# Altium footprint library Cuk_3ph_control.PcbLib: 28 footprints (part 2 of 2)
Each footprint in its own frame and in the unit in brackets; x right, y up, seen from the top. Pads: shape width x height; smd on the part's side, far side on the other; paste and mask are expansions set on the pad; w line width, h text height; cw(c..) or ccw(c..) is an arc to the next point about the centre after c.
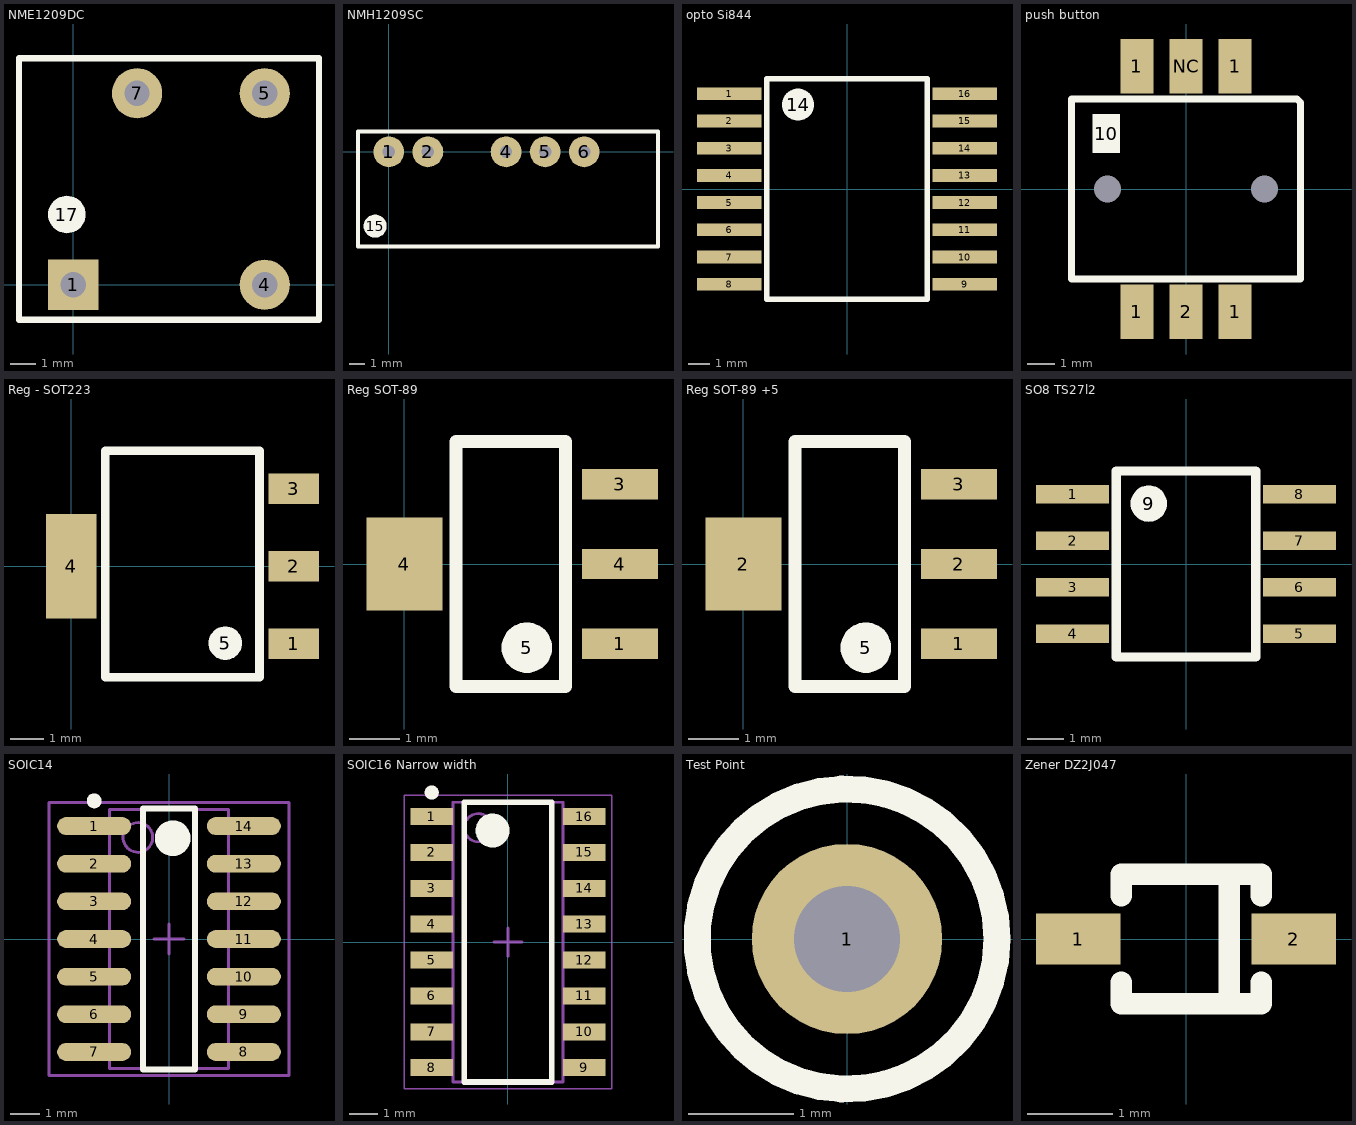
[diagram p1: the footprints below, top view; thin cyan lines are the x and y axes]

## NME1209DC [mm]
height 10
pads (5):
  rect 2x2 hole 1: 1(0,0)
  round 2 hole 1: 4(7.62,0) 5(7.62,7.62) 7(2.54,7.62)
  round 1.5 on Top Overlay: 17(-0.254,2.794)
Top Overlay:
  lines w0.254: -2.159,-1.397 9.779,-1.397 9.779,9.017 -2.159,9.017 -2.159,-1.397

## NMH1209SC [mm]
height 10
pads (6):
  round 2 hole 0.8: 1(0,0) 2(2.54,0) 4(7.62,0) 5(10.16,0) 6(12.7,0)
  round 1.5 on Top Overlay: 15(-0.889,-4.826)
Top Overlay:
  lines w0.254: -2.003,-6.163 -2.003,1.337 17.497,1.337 17.497,-6.163 -2.003,-6.163

## opto Si844 [mm]
height 2.65
pads (17):
  rect 3x0.6 smd: 1(-5.5,4.445) 2(-5.5,3.175) 3(-5.5,1.905) 4(-5.5,0.635) 5(-5.5,-0.635) 6(-5.5,-1.905) 7(-5.5,-3.175) 8(-5.5,-4.445) 9(5.5,-4.445) 10(5.5,-3.175) 11(5.5,-1.905) 12(5.5,-0.635) 13(5.5,0.635) 14(5.5,1.905) 15(5.5,3.175) 16(5.5,4.445)
  round 1.5 on Top Overlay: 14(-2.286,3.937)
Top Overlay:
  lines w0.254: -3.75,-5.15 -3.75,5.15 3.75,5.15 3.75,-5.15 -3.75,-5.15

## push button [mm]
height 5
pads (9):
  rect 1.2x2 smd: 1(-1.8,-4.5) 1(-1.8,4.5) 1(1.8,-4.5) 1(1.8,4.5) 2(0,-4.5) NC(0,4.5)
  rect 1x1.42 on Top Overlay: 10(-2.921,2.032)
  round 0 hole 1: NC(-2.875,0) NC(2.875,0)
Top Overlay:
  lines w0.254: -4.191,-3.302 4.191,-3.302 4.191,3.175 4.159,3.207 4.064,3.302 -4.191,3.302 -4.191,-3.302

## Reg - SOT223 [mm]
pads (5):
  rect 1.5x0.9 smd: 1(6.604,-2.3) 2(6.604,0) 3(6.604,2.3)
  rect 1.5x3.1 smd: 4(0,0)
  round 1 on Top Overlay: 5(4.572,-2.286)
Top Overlay:
  lines w0.254: 1.016,-3.302 5.588,-3.302 5.588,3.429 1.016,3.429 1.016,-3.302

## Reg SOT-89 [mm]
pads (5):
  rect 1.5x0.6 smd: 1(4.25,-1.57) 3(4.25,1.57) 4(4.25,0)
  rect 1.5x1.83 smd: 4(0,0)
  round 1 on Top Overlay: 5(2.413,-1.651)
Top Overlay:
  lines w0.254: 1.016,-2.413 1.016,2.413 3.175,2.413 3.175,-2.413 1.016,-2.413

## Reg SOT-89 +5 [mm]
pads (5):
  rect 1.5x0.6 smd: 1(4.25,-1.57) 2(4.25,0) 3(4.25,1.57)
  rect 1.5x1.83 smd: 2(0,0)
  round 1 on Top Overlay: 5(2.413,-1.651)
Top Overlay:
  lines w0.254: 1.016,-2.413 1.016,2.413 3.175,2.413 3.175,-2.413 1.016,-2.413

## SO8 TS27l2 [mm]
pads (9):
  rect 2x0.5 smd: 1(-3.1,1.905) 2(-3.1,0.635) 3(-3.1,-0.635) 4(-3.1,-1.905) 5(3.1,-1.905) 6(3.1,-0.635) 7(3.1,0.635) 8(3.1,1.905)
  round 1 on Top Overlay: 9(-1.016,1.651)
Top Overlay:
  lines w0.254: -1.905,-2.54 -1.905,2.54 1.905,2.54 1.905,-2.54 -1.905,-2.54

## SOIC14 [mm]
pads (14):
  oval 2.5x0.6 smd: 1(-2.525,3.81) 2(-2.525,2.54) 3(-2.525,1.27) 4(-2.525,0) 5(-2.525,-1.27) 6(-2.525,-2.54) 7(-2.525,-3.81) 8(2.525,-3.81) 9(2.525,-2.54) 10(2.525,-1.27) 11(2.525,0) 12(2.525,1.27) 13(2.525,2.54) 14(2.525,3.81)
Top Overlay:
  circle w0.6: c0.125,3.4 r0.3
  circle w0.25: c-2.525,4.66 r0.125
  lines w0.2: -0.875,-4.4 0.875,-4.4 0.875,4.4 -0.875,4.4 -0.875,-4.4
Mechanical 13:
  circle w0.1: c-1.05,3.425 r0.5
  lines w0.1: -2,-4.375 2,-4.375 2,4.375 -2,4.375 -2,-4.375
Mechanical 15:
  lines w0.1: -0.5,0 0.5,0 ; 0,-0.5 0,0.5 ; -4.05,-4.6 4.05,-4.6 4.05,4.6 -4.05,4.6 -4.05,-4.6
3D body: height 1.75, standoff 0.1, extent -2,-4.375 2,4.375

## SOIC16 Narrow width [mm] "SOIC, 16-Leads, Body 9.90x3.90mm, Pitch 1.27mm, IPC Medium Density"
height 1.75
pads (16):
  rect 1.5x0.6 smd: 1(-2.7,4.445) 2(-2.7,3.175) 3(-2.7,1.905) 4(-2.7,0.635) 5(-2.7,-0.635) 6(-2.7,-1.905) 7(-2.7,-3.175) 8(-2.7,-4.445) 9(2.7,-4.445) 10(2.7,-3.175) 11(2.7,-1.905) 12(2.7,-0.635) 13(2.7,0.635) 14(2.7,1.905) 15(2.7,3.175) 16(2.7,4.445)
Top Overlay:
  circle w0.6: c-0.55,3.95 r0.3
  circle w0.25: c-2.7,5.295 r0.125
  lines w0.2: -1.55,-4.95 1.55,-4.95 1.55,4.95 -1.55,4.95 -1.55,-4.95
Mechanical 13:
  circle w0.1: c-1.05,4.05 r0.5
  lines w0.1: -1.95,-4.95 1.95,-4.95 1.95,4.95 -1.95,4.95 -1.95,-4.95
Mechanical 15:
  lines w0.05: -3.675,-5.2 3.675,-5.2 3.675,5.2 -3.675,5.2 -3.675,-5.2
  lines w0.1: -0.5,0 0.5,0 ; 0,-0.5 0,0.5
3D body: height 1.75, standoff 0.1, extent -1.95,-4.95 1.95,4.95

## Test Point [mm]
pads (1):
  round 1.8 hole 1: 1(0,0)
Top Overlay:
  circle w0.254: c0,0 r1.42

## Zener DZ2J047 [mm]
height 0.7
pads (2):
  rect 1x0.6 smd: 1(-1.27,0) 2(1.27,0)
Top Overlay:
  lines w0.254: -0.762,-0.508 -0.762,-0.762 0.889,-0.762 0.889,-0.508 ; -0.762,0.508 -0.762,0.762 0.889,0.762 0.889,0.508 ; 0.508,-0.762 0.508,0.635